# Altium integrated library IC-WE_TSSOP20.IntLib: 1 symbol
Pins are listed as number, name and electrical type; pins without a type are passive.

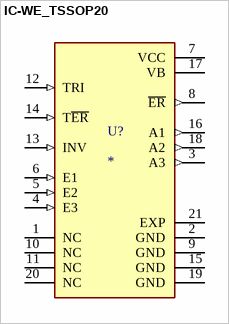
[diagram p0: symbol IC-WE_TSSOP20]

## IC-WE_TSSOP20
designator U?
Driver IC [IC Haus] IC-WE TSSOP20 Driver IC; MF: iC-Haus; Price: None; Package: TSSOP-20 iC-Haus; Check_prices: https://www.snapeda.com/parts/IC-WE%20TSSOP20/iC-Haus/view-part/?ref=eda; Availability: Not in stock; MP: IC-WE TSSOP20; Value: *; SnapEDA_Link: https://www.snapeda.com/parts/IC-WE%20TSSOP20/iC-Haus/view-part/?ref=snap
footprint SOP65P640X110-21N
pins: 1 NC, 2 GND (power), 3 A3 (out), 4 E3 (in), 5 E2 (in), 6 E1 (in), 7 VCC (power), 8 ~{ER} (out), 9 GND (power), 10 NC, 11 NC, 12 TRI (in), 13 INV (in), 14 T~{ER} (in), 15 GND (power), 16 A1 (out), 17 VB (power), 18 A2 (out), 19 GND (power), 20 NC, 21 EXP (power)